# EAGLE library part STM32F401VET6 (library circuit_tree)
IC
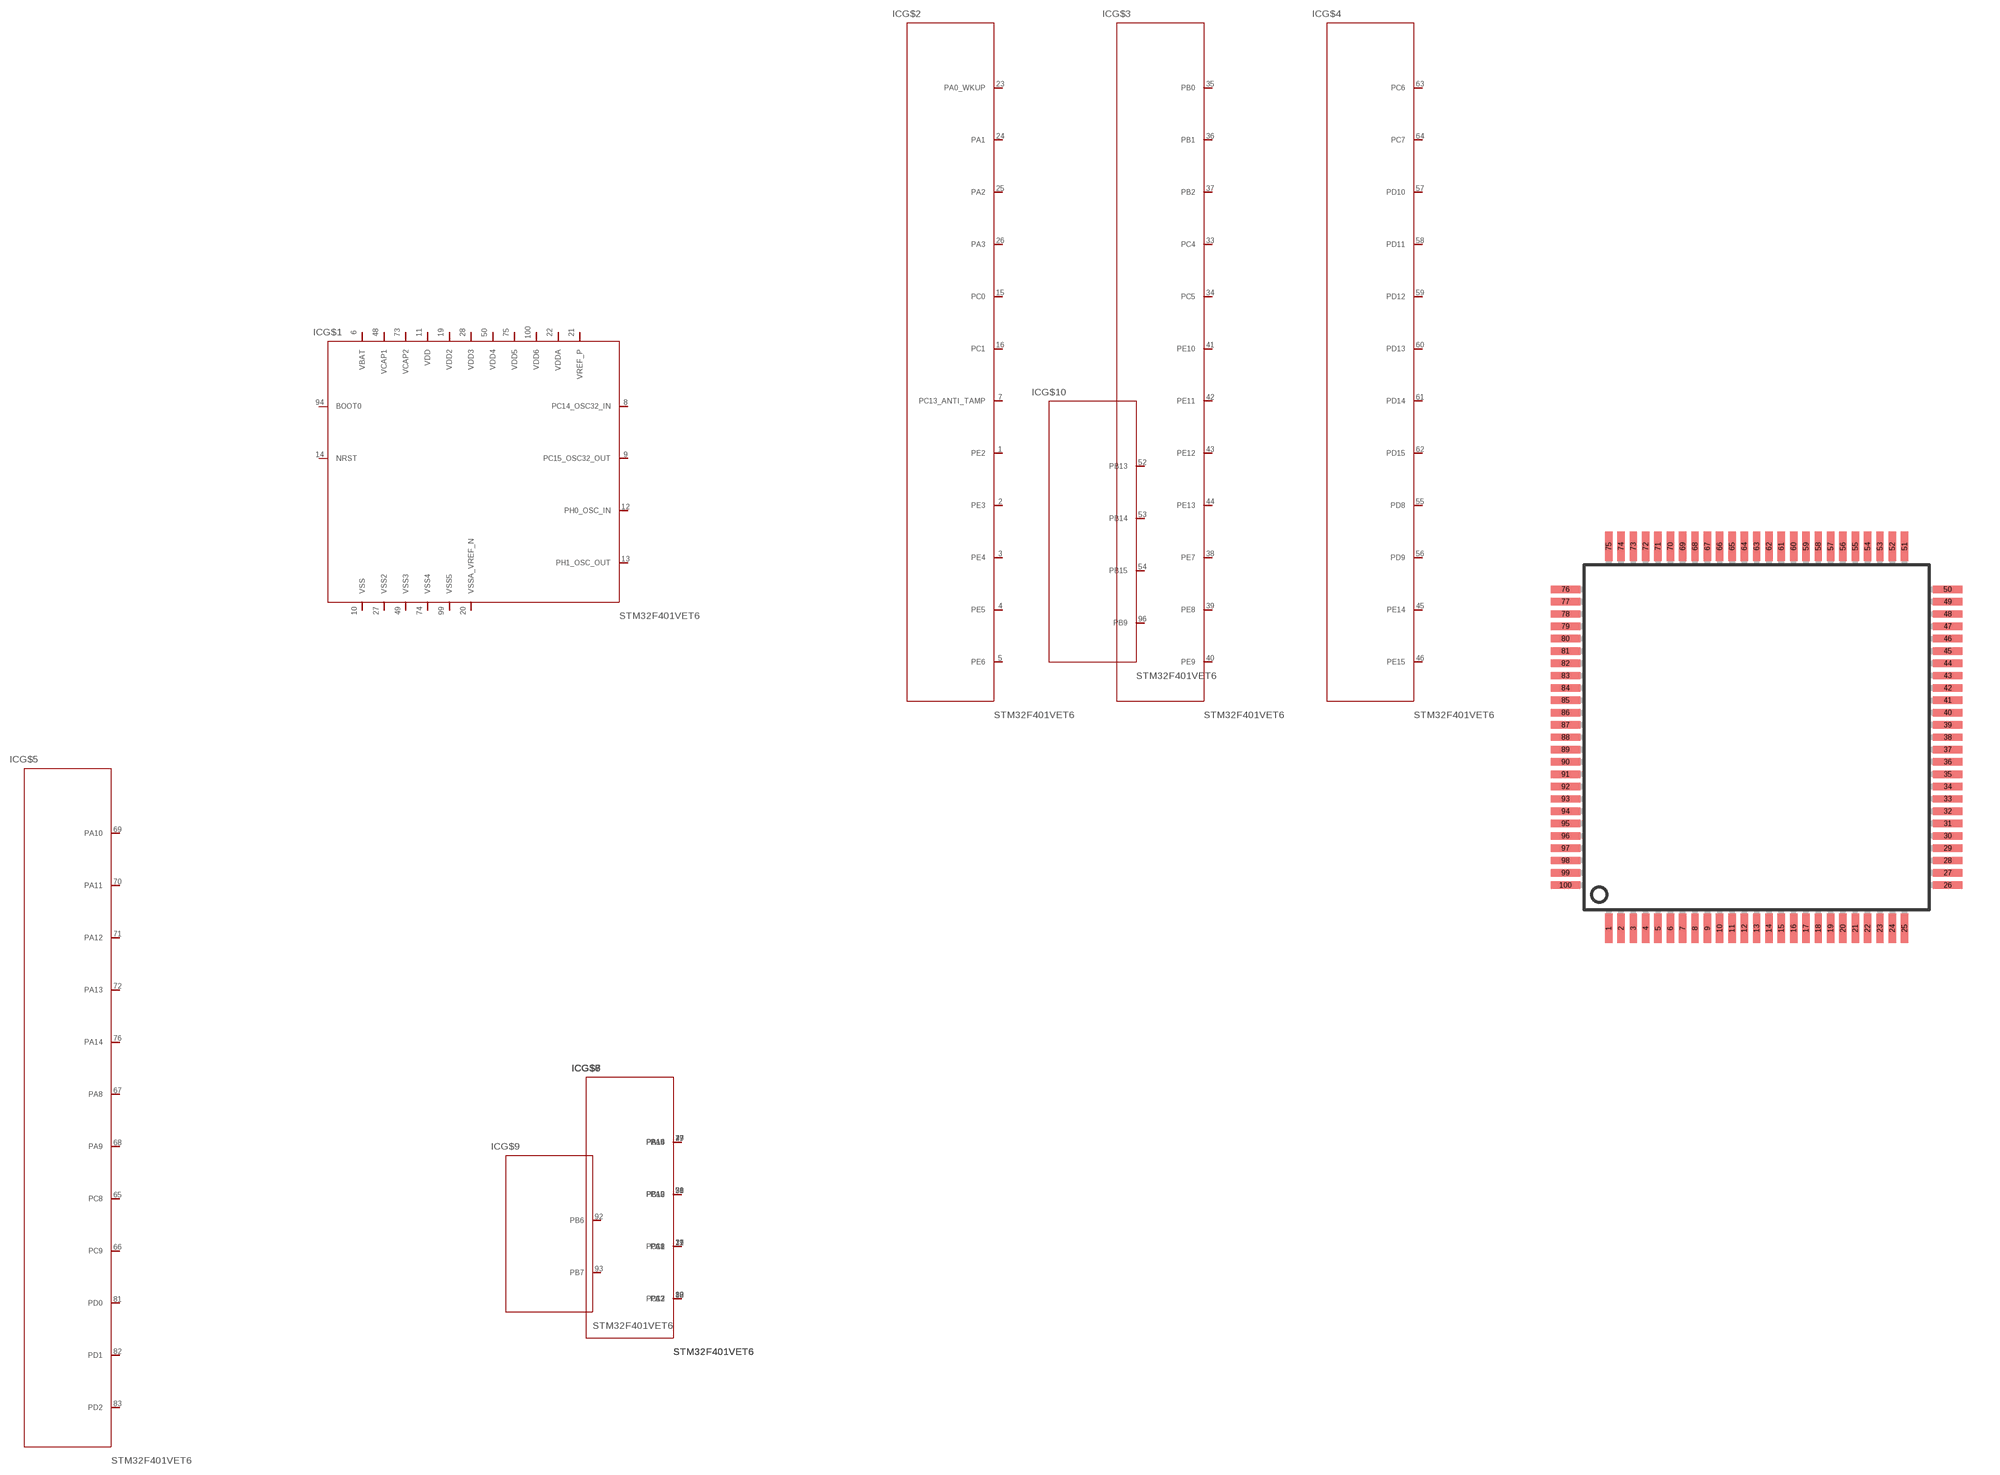
[diagram p7: symbol with the pads of LQFP100; footprint LQFP100]

Designator prefix IC; gates G$1=STM32F401VET6 G$2=STM32F401VET62 G$3=STM32F401VET63 G$4=STM32F401VET64 G$5=STM32F401VET65 G$6=STM32F401VET66 G$7=STM32F401VET67 G$8=STM32F401VET68 G$9=STM32F401VET69 G$10=STM32F401VET610

## STM32F401VET6  [LQFP100]
1  G$2:PE2  pas
2  G$2:PE3  pas
3  G$2:PE4  pas
4  G$2:PE5  pas
5  G$2:PE6  pas
6  G$1:VBAT  pas
7  G$2:PC13_ANTI_TAMP  pas
8  G$1:PC14_OSC32_IN  pas
9  G$1:PC15_OSC32_OUT  pas
10  G$1:VSS  pas
11  G$1:VDD  pas
12  G$1:PH0_OSC_IN  pas
13  G$1:PH1_OSC_OUT  pas
14  G$1:NRST  pas
15  G$2:PC0  pas
16  G$2:PC1  pas
17  G$6:PC2  pas
18  G$6:PC3  pas
19  G$1:VDD2  pas
20  G$1:VSSA_VREF_N  pas
21  G$1:VREF_P  pas
22  G$1:VDDA  pas
23  G$2:PA0_WKUP  pas
24  G$2:PA1  pas
25  G$2:PA2  pas
26  G$2:PA3  pas
27  G$1:VSS2  pas
28  G$1:VDD3  pas
29  G$8:PA4  pas
30  G$8:PA5  pas
31  G$8:PA6  pas
32  G$8:PA7  pas
33  G$3:PC4  pas
34  G$3:PC5  pas
35  G$3:PB0  pas
36  G$3:PB1  pas
37  G$3:PB2  pas
38  G$3:PE7  pas
39  G$3:PE8  pas
40  G$3:PE9  pas
41  G$3:PE10  pas
42  G$3:PE11  pas
43  G$3:PE12  pas
44  G$3:PE13  pas
45  G$4:PE14  pas
46  G$4:PE15  pas
47  G$6:PB10  pas
48  G$1:VCAP1  pas
49  G$1:VSS3  pas
50  G$1:VDD4  pas
51  G$6:PB12  pas
52  G$10:PB13  pas
53  G$10:PB14  pas
54  G$10:PB15  pas
55  G$4:PD8  pas
56  G$4:PD9  pas
57  G$4:PD10  pas
58  G$4:PD11  pas
59  G$4:PD12  pas
60  G$4:PD13  pas
61  G$4:PD14  pas
62  G$4:PD15  pas
63  G$4:PC6  pas
64  G$4:PC7  pas
65  G$5:PC8  pas
66  G$5:PC9  pas
67  G$5:PA8  pas
68  G$5:PA9  pas
69  G$5:PA10  pas
70  G$5:PA11  pas
71  G$5:PA12  pas
72  G$5:PA13  pas
73  G$1:VCAP2  pas
74  G$1:VSS4  pas
75  G$1:VDD5  pas
76  G$5:PA14  pas
77  G$7:PA15  pas
78  G$7:PC10  pas
79  G$7:PC11  pas
80  G$7:PC12  pas
81  G$5:PD0  pas
82  G$5:PD1  pas
83  G$5:PD2  pas
92  G$9:PB6  pas
93  G$9:PB7  pas
94  G$1:BOOT0  pas
96  G$10:PB9  pas
99  G$1:VSS5  pas
100  G$1:VDD6  pas

## Footprint LQFP100 (pad centres in mm)
LQFP100 14 x 14 mm, 100-pin low-profile quad flat package
smd 0.3 x 1.2: 1 -6,-7.75; 2 -5.5,-7.75; 3 -5,-7.75; 4 -4.5,-7.75; 5 -4,-7.75; 6 -3.5,-7.75; 7 -3,-7.75; 8 -2.5,-7.75; 9 -2,-7.75; 10 -1.5,-7.75; 11 -1,-7.75; 12 -0.5,-7.75; 13 0,-7.75; 14 0.5,-7.75; 15 1,-7.75; 16 1.5,-7.75; 17 2,-7.75; 18 2.5,-7.75; 19 3,-7.75; 20 3.5,-7.75; 21 4,-7.75; 22 4.5,-7.75; 23 5,-7.75; 24 5.5,-7.75; 25 6,-7.75; 51 6,7.75; 52 5.5,7.75; 53 5,7.75; 54 4.5,7.75; 55 4,7.75; 56 3.5,7.75; 57 3,7.75; 58 2.5,7.75; 59 2,7.75; 60 1.5,7.75; 61 1,7.75; 62 0.5,7.75; 63 0,7.75; 64 -0.5,7.75; 65 -1,7.75; 66 -1.5,7.75; 67 -2,7.75; 68 -2.5,7.75; 69 -3,7.75; 70 -3.5,7.75; 71 -4,7.75; 72 -4.5,7.75; 73 -5,7.75; 74 -5.5,7.75; 75 -6,7.75
smd 1.2 x 0.3: 26 7.75,-6; 27 7.75,-5.5; 28 7.75,-5; 29 7.75,-4.5; 30 7.75,-4; 31 7.75,-3.5; 32 7.75,-3; 33 7.75,-2.5; 34 7.75,-2; 35 7.75,-1.5; 36 7.75,-1; 37 7.75,-0.5; 38 7.75,0; 39 7.75,0.5; 40 7.75,1; 41 7.75,1.5; 42 7.75,2; 43 7.75,2.5; 44 7.75,3; 45 7.75,3.5; 46 7.75,4; 47 7.75,4.5; 48 7.75,5; 49 7.75,5.5; 50 7.75,6; 76 -7.75,6; 77 -7.75,5.5; 78 -7.75,5; 79 -7.75,4.5; 80 -7.75,4; 81 -7.75,3.5; 82 -7.75,3; 83 -7.75,2.5; 84 -7.75,2; 85 -7.75,1.5; 86 -7.75,1; 87 -7.75,0.5; 88 -7.75,0; 89 -7.75,-0.5; 90 -7.75,-1; 91 -7.75,-1.5; 92 -7.75,-2; 93 -7.75,-2.5; 94 -7.75,-3; 95 -7.75,-3.5; 96 -7.75,-4; 97 -7.75,-4.5; 98 -7.75,-5; 99 -7.75,-5.5; 100 -7.75,-6